# Altium schematic symbol library ESP_Grow_Main_V2.SCHLIB: 53 symbols
Pins are listed as number, name and electrical type; pins without a type are passive.

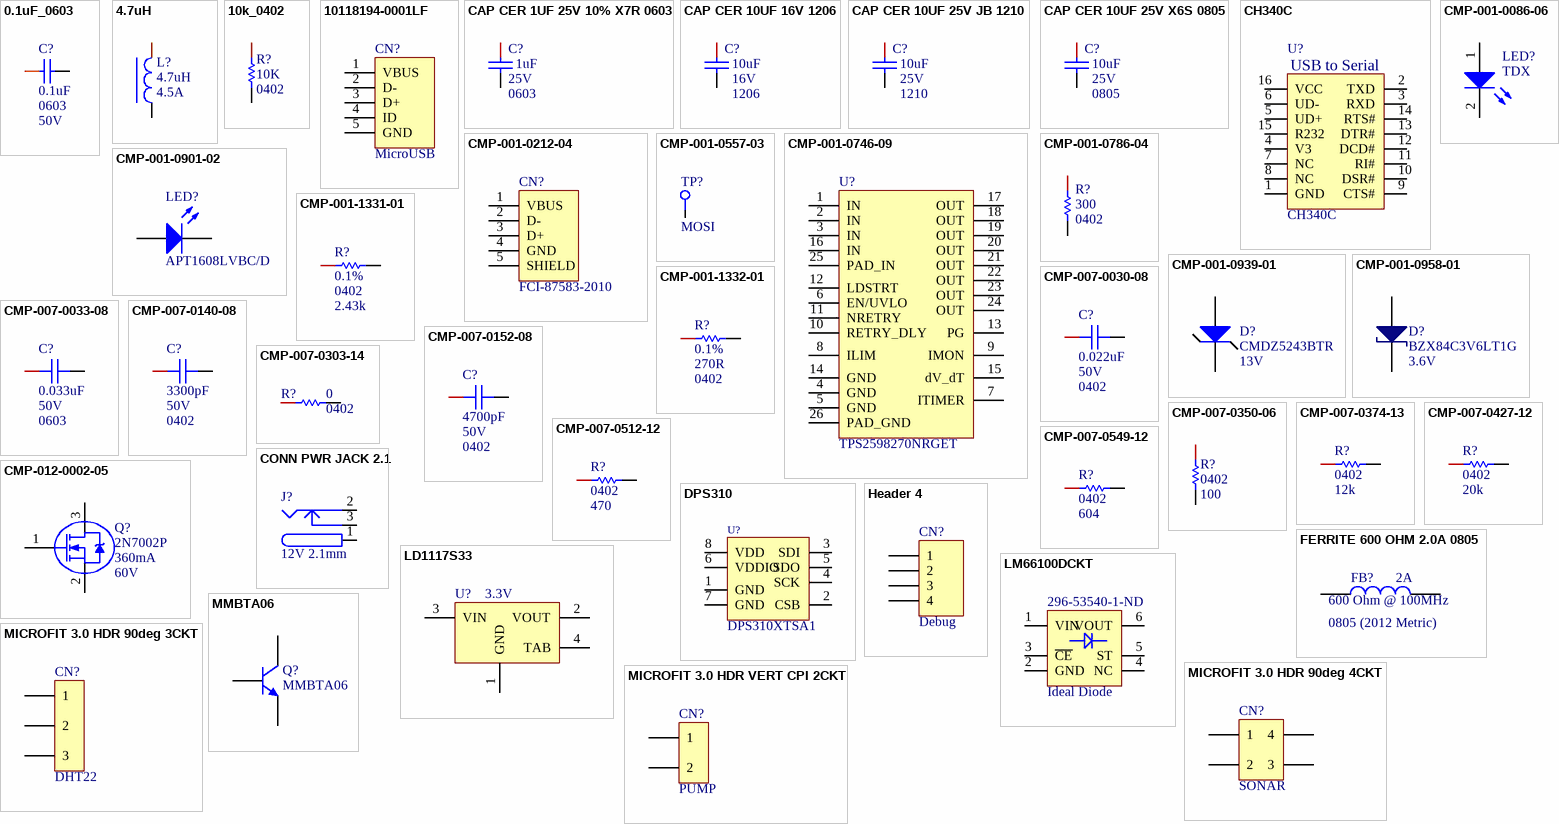
[diagram p0: symbols 0.1uF_0603 to MMBTA06]

## 0.1uF_0603
designator C?, comment Package / Case: 0603  Voltage - Rated: 50V  (hidden comment: 0.1uF)
100NF 50V 0603; Manufacturer: YAGEO; Manufacturer Part Number: CC0603KRX7R9BB104; Tolerance: ±10%; Temperature Coefficient: X7R; Supplier 1: Digi-Key; RoHS: RoHS Compliant; Category: Capacitors; Stock 1: 2360000; Pricing 1: 4000=0.00414, 8000=0.00378, 12000=0.0036, 28000=0.00342, 100000=0.00248 (USD); Packaging: Tape & Reel (TR); Mounting Type: Surface Mount, MLCC; Operating Temperature: -55°C ~ 125°C; Applications: General Purpose; Ratings: -; Size / Dimension: 0.063" L x 0.031" W (1.60mm x 0.80mm); Height - Seated (Max): -; Thickness (Max): 0.034" (0.87mm); Lead Spacing: -; Features: -; Lead Style: -; ComponentLink1URL: http://www.kemet.com/datasheets&C0603C104K4RACTU; ComponentLink1Description: http://www.kemet.com/datasheets&C0603C104K4RACTU; Supplier Part Number 1: 399-1096-2-ND; ComponentLink2Description: New link; ComponentLink2URL: *; LCSC Part #: C14663; Capacitance: 0.1uF
footprint CAPC0603(1608)_L (Chip Capacitor, Body 1.6x0.8mm, Height 1.0mm, IPC High Density)
footprint CAPC0603(1608)_M (Chip Capacitor, Body 1.6x0.8mm, Height 1.0mm, IPC Low Density)
footprint CAPC0603(1608)_N (Chip Capacitor, Body 1.6x0.8mm, Height 1.0mm, IPC Medium Density)
pins: 1, 2

## 4.7uH
designator L?, comment Inductance: 4.7uH  Max Current: 4.5A  (hidden comment: 4.7uH ±20% 4.5A 60mΩ)
4.7uH ±20% 4.5A 60mΩ SMD,5.2x5.4x3.0mm Power Inductors RoHS /; Manufacturer: Sunlord; Manufacturer Part Number 1: MWSA0503S-4R7MT; LCSC Part Number: C408410; Saturation Current: *; ComponentLink1Description: New link; ComponentLink1URL: *; ComponentLink2Description: New link; ComponentLink2URL: *; Package: SMD,5.2x5.4x3.0mm; DC Resistance: 60mΩ
footprint MWSA0503S-4R7MT (Precision Wire Wound Inductor, 2-Leads, Body 5.40x5.20mm, IPC Medium Density)
pins: 1 (power), 2 (power)

## 10k_0402
designator R?, comment Resistance: 10K  Package: 0402  (hidden comment: 0402WGF1002TCE)
10KOHMS ±1% 1/10W 0402; Supplier Part Number 1: C25744; Manufacturer Part Number 1: 0402WGF1002TCE; Supplier 1: LCSC
footprint RESC0402(1005)_N (Chip Resistor, Body 1.0x0.5mm, IPC Medium Density)
pins: 1, 2

## 10118194-0001LF
designator CN?, comment MicroUSB
Amphenol FCI CONN USB MICRO B RECPT SMT R/A; Manufacturer Part Number: 10118194-0001LF; Connector Type: USB - micro B; Number of Contacts: 5; Gender: Receptacle; Specifications: USB 2.0; Number of Ports: 1; Current Rating: 1.8A per Contact; Voltage - Rated: 100VAC; Mating Cycles: 10000; Shielding: Shielded; Material Flammability Rating: UL94 V-0; ClassName: *; Supplier 1: Digi-Key; Manufacturer: Amphenol FCI; RoHS: RoHS Compliant; Category: Connectors, Interconnects; Stock 1: 220681; Pricing 1: 1=0.46, 10=0.437, 25=0.3744, 50=0.318, 100=0.3056, 250=0.27444, 500=0.26196 (USD); Packaging: Cut Tape (CT); Part Status: Active; Mounting Type: Surface Mount, Right Angle; Through Hole; Mounting Feature: Horizontal; Termination: Solder; Features: Solder Retention; Ingress Protection: -; Operating Temperature: -30°C ~ 80°C; Contact Finish: Gold; Shell/Shielding Material: Steel, Stainless; Insulation Color: Black; ComponentLink1URL: http://portal.fciconnect.com/Comergent//fci/drawing/10118194.pdf; ComponentLink1Description: http://portal.fciconnect.com/Comergent//fci/drawing/10118194.pdf; Supplier Part Number 1: 609-4618-1-ND
footprint 10118194-0001LF (Amphenol FCI CONN USB MICRO B RECPT SMT R/A)
pins: 1 VBUS (power), 2 D-, 3 D+, 4 ID, 5 GND (power)

## CAP CER 1UF 25V 10% X7R 0603
designator C?, comment 1uF  Voltage - Rated: 25V  Package / Case: 0603
1uF 0603 25V; Manufacturer: TDK Corporation; Manufacturer Part Number: CGA3E1X7R1E105K080AC; Tolerance: ±10%; Temperature Coefficient: X7R; Supplier 1: Digi-Key; RoHS: RoHS Compliant; Category: Capacitors; Stock 1: 360610; Pricing 1: 1=0.2, 10=0.135, 100=0.0686, 500=0.04696, 1000=0.04154 (USD); Packaging: Cut Tape (CT); Part Status: Active; Operating Temperature: -55°C ~ 125°C; Features: -; Ratings: AEC-Q200; Applications: Automotive; Failure Rate: -; Mounting Type: Surface Mount, MLCC; Size / Dimension: 0.063" L x 0.032" W (1.60mm x 0.80mm); Height - Seated (Max): -; Thickness (Max): 0.035" (0.90mm); Lead Spacing: -; Lead Style: -; ComponentLink1URL: https://product.tdk.com/info/en/catalog/datasheets/mlcc_automotive_general_en.pdf; ComponentLink1Description: https://product.tdk.com/info/en/catalog/datasheets/mlcc_automotive_general_en.pdf; Supplier Part Number 1: 445-6931-1-ND
footprint CAPC0603(1608)_L (Chip Capacitor, Body 1.6x0.8mm, Height 1.0mm, IPC High Density)
footprint CAPC0603(1608)_M (Chip Capacitor, Body 1.6x0.8mm, Height 1.0mm, IPC Low Density)
footprint CAPC0603(1608)_N (Chip Capacitor, Body 1.6x0.8mm, Height 1.0mm, IPC Medium Density)
pins: 1, 2

## CAP CER 10UF 16V 1206
designator C?, comment 10uF  Voltage - Rated: 16V  Package: 1206
Temperature Coefficient: X7R; LCSC: C126600; Capacitance: 10uF; Supplier 1: Digi-Key; Supplier Part Number 1: 490-4793-1-ND
footprint CAPC1206(3216)_M (Chip Capacitor, Body 3.2x1.6mm, Height 1.9mm, IPC Low Density)
pins: 1, 2

## CAP CER 10UF 25V JB 1210
designator C?, comment 10uF  Package / Case: 1210  Voltage Rated: 25V
10uF 1210 25V; Manufacturer: TDK Corporation; Manufacturer Part Number: C3225JB1E106K250AA; Tolerance: ±10%; Temperature Coefficient: JB; Notification: Current market demand for these product types have resulted in fluctuating and extending lead times. Lead times may differ.; Supplier 1: Digi-Key; RoHS: RoHS Compliant; Category: Capacitors; Stock 1: 19014; Pricing 1: 1=0.74, 10=0.525, 100=0.3454, 500=0.25588 (USD); Packaging: Cut Tape (CT); Part Status: Active; Operating Temperature: -25°C ~ 85°C; Ratings: -; Applications: General Purpose; Failure Rate: -; Mounting Type: Surface Mount, MLCC; Size / Dimension: 0.126" L x 0.098" W (3.20mm x 2.50mm); Height - Seated (Max): -; Thickness (Max): 0.110" (2.80mm); Lead Spacing: -; Lead Style: -; ComponentLink1URL: https://product.tdk.com/info/en/catalog/datasheets/mlcc_commercial_general_en.pdf; ComponentLink1Description: https://product.tdk.com/info/en/catalog/datasheets/mlcc_commercial_general_en.pdf; Supplier Part Number 1: 445-11850-1-ND; Voltage - Rated: 25V; Features: Low ESL
footprint CAPC1210(3225)_L (Chip Capacitor, Body 3.2x2.5mm, Height 6.3mm, IPC High Density)
footprint CAPC1210(3225)_M (Chip Capacitor, Body 3.2x2.5mm, Height 6.3mm, IPC Low Density)
footprint CAPC1210(3225)_N (Chip Capacitor, Body 3.2x2.5mm, Height 6.3mm, IPC Medium Density)
pins: 1, 2

## CAP CER 10UF 25V X6S 0805
designator C?, comment 10uF  Voltage - Rated: 25V  Package / Case: 0805
10UF 25V X6R 0805; Manufacturer: Murata Electronics North America; Manufacturer Part Number: GRM21BC81E106ME51L; Tolerance: ±20%; Temperature Coefficient: X6S; Notification: Current market demand for these product types have resulted in fluctuating and extending lead times. Lead times may differ.; Supplier 1: Digi-Key; RoHS: RoHS Compliant; Category: Capacitors; Stock 1: 23735; Pricing 1: 1=0.29, 10=0.199, 100=0.1009, 500=0.06906, 1000=0.0611 (USD); Packaging: Cut Tape (CT); Part Status: Active; Operating Temperature: -55°C ~ 105°C; Features: -; Ratings: -; Applications: General Purpose; Mounting Type: Surface Mount, MLCC; Size / Dimension: 0.079" L x 0.049" W (2.00mm x 1.25mm); Height - Seated (Max): -; Thickness (Max): 0.055" (1.40mm); Lead Spacing: -; Lead Style: -; ComponentLink1URL: http://search.murata.co.jp/Ceramy/image/img/A01X/G101/ENG/GRM21BC81E106ME51-01.pdf; ComponentLink1Description: http://search.murata.co.jp/Ceramy/image/img/A01X/G101/ENG/GRM21BC81E106ME51-01.pdf; Supplier Part Number 1: 490-10503-1-ND
footprint CAPC0805(2012)_L (Chip Capacitor, Body 2.0x1.2mm, Height 1.55mm, IPC High Density)
footprint CAPC0805(2012)_M (Chip Capacitor, Body 2.0x1.2mm, Height 1.55mm, IPC Low Density)
footprint CAPC0805(2012)_N (Chip Capacitor, Body 2.0x1.2mm, Height 1.55mm, IPC Medium Density)
pins: 1, 2

## CH340C
designator U?
USB to Serial UART; ComponentLink2URL: https://lcsc.com/product-detail/USB_CH340C_C84681.html; ComponentLink1URL: https://www.sparkfun.com/products/15096; ComponentLink2Description: LCSC Part Link; ComponentLink1Description: Sparkfun Demo Board
footprint SOP-16 (TSOP, 16-Leads, Body 10.15x4.50mm, Pitch 1.27mm, IPC Medium Density)
pins: 1 GND (power), 2 TXD (power), 3 RXD (power), 4 V3 (power), 5 UD+ (power), 6 UD- (power), 7 NC (power), 8 NC (power), 9 CTS# (power), 10 DSR# (power), 11 RI# (power), 12 DCD# (power), 13 DTR# (power), 14 RTS# (power), 15 R232 (power), 16 VCC (power)
text: USB to Serial

## CMP-001-0086-06
designator LED?, comment TDX
LED GREEN CLEAR THIN 0603 SMD; Manufacturer Part Number: LTST-C191KGKT; Manufacturer: Lite-On Inc; Millicandela Rating: 35mcd; Wavelength - Peak: 574nm; Current - Test: 20mA; Wavelength - Dominant: 571nm; Viewing Angle: 130°; Lens Style/Size: Rectangle with Flat Top, 1.1mm x 0.8mm; Voltage - Forward (Vf) (Typ): 2V; Color: Green; Size / Dimension: 1.60mm L x 0.80mm W; Mounting Type: Surface Mount; Designator: LTST-C191KGKT; Height: 0.55mm; RoHS: RoHS Compliant; Package / Case: 0603 (1608 Metric); Packaging: Cut Tape (CT); Lens Type: Clear; Pin Count: 2; Stock 1: 84829; Pricing 1: 1=0.3, 10=0.238, 100=0.1296, 250=0.0864, 500=0.07344, 1000=0.05616, 2500=0.05076 (USD); ClassName: *
footprint SM-LED-0603 (0603 LED)
pins: 1 A, 2 K

## CMP-001-0212-04
designator CN?, comment FCI-87583-2010
USB-A Receptacle; Manufacturer Part Number: 87583-2010BLF; Manufacturer: FCI; Vendor: Digikey; PN: 609-4413-ND; Number of Contacts: 4; Specifications: USB 2.0; ComponentLink1Description: http://portal.fciconnect.com/Comergent//fci/drawing/87583.pdf; Gender: Receptacle; Connector Type: USB - A; Stock 1: 25474; Packaging: Tube; Mounting Type: Surface Mount, Right Angle, Horizontal; Ingress Protection: -; Component Name: FCI-87583-2010; MPN: 87583-2010BLF; ComponentLink1URL: http://portal.fciconnect.com/Comergent//fci/drawing/87583.pdf; Series: 87583; Pin Count: 5; RoHS: RoHS Compliant; Features: Board Lock; Pricing 1: 1=0.89, 10=0.78, 25=0.7344, 50=0.7038, 100=0.6732, 250=0.612, 500=0.5508, 1000=0.4896, 2500=0.4437 (USD); Designator: FCI-87583-2010
footprint 87583-2010 (USB-A Receptacle)
pins: 1 VBUS (power), 2 D-, 3 D+, 4 GND (power), 5 SHIELD (power)

## CMP-001-0557-03
designator TP?, comment MOSI  (no BOM)
Test Point- Current one; Pin Count: 1; Component Name: TestPoint; Designator: TestPoint
footprint Pogo-Testpoint (Test Point - Top Pad Only)
pins: 1

## CMP-001-0746-09
designator U?, comment TPS2598270NRGET
15A, 3mohm eFuse with Accurate Current Monitor and Configurable Retry Timers - No UV Lockout; Current Monitor Output: Accuracy: ±1% (Typical, for IOUT> 2 A); Output Slew Rate (dVdt): Adjustable; Fault Response: Auto-Retry; Over Temperature Protection: Yes; Voltage Input: 2.7 V to 24 V; Over Voltage Protection: N/A on this model; Extra Features: Programmable Load Handshake Timer; Current Limit Threshold: 3 A to 15 A; Rds on: 3-mΩ; Type: Circuit Breaker; Datasheet: https://www.ti.com/lit/gpn/TPS25982; Power Good Output: Yes; Supplier Link: https://www.ti.com/store/ti/en/p/product/?p=PTPS259827ONRGET; ComponentLink1Description: New link; ComponentLink1URL: *
footprint VQFN_24 (QFN, 24-Leads, Body 4.00x4.00mm, Pitch 0.50mm, Thermal Pad 2.70x1.45mm, IPC Medium Density)
pins: 1 IN (power), 2 IN (power), 3 IN (power), 4 GND (power), 5 GND (power), 6 EN/UVLO (power), 7 ITIMER (power), 8 ILIM (power), 9 IMON (power), 10 RETRY_DLY (power), 11 NRETRY (power), 12 LDSTRT (power), 13 PG (power), 14 GND (power), 15 dV_dT (power), 16 IN (power), 17 OUT (power), 18 OUT (power), 19 OUT (power), 20 OUT (power), 21 OUT (power), 22 OUT (power), 23 OUT (power), 24 OUT (power), 25 PAD_IN (power), 26 PAD_GND (power)

## CMP-001-0786-04
designator R?, comment Package (Imperial): 0402  Resistance: 300  (hidden comment: RES SMD 300 OHM 1% 1/10W 0402)
300 Ohms ±1% 0.1W, 1/10W Chip Resistor 0402 (1005 Metric) Automotive AEC-Q200 Thick Film; Temperature Coefficient: 100ppm/°C; Voltage Rating (DC): 50V; Max Power Dissipation: 100mW; Package (Metric): 1005; REACH SVHC: No SVHC; Mount: Surface Mount; Min Operating Temperature: -55°C; Contact Plating: Tin; Tolerance: 1%; Max Operating Temperature: 155°C; Lead Free: Lead Free; Width: 200µm; Length: 1mm; Height: 350µm; Number of Terminations: 2; Voltage Rating: 50V; Packaging: Tape and Reel; Military Standard: Not; Power: 100mW; Package Quantity: 10000; Termination: SMD/SMT; Power Rating: 100mW; Composition: Thick Film; Depth: 0.5mm
footprint RESC0402(1005)_L (Chip Resistor, Body 1.0x0.5mm, IPC High Density)
pins: 1, 2

## CMP-001-0901-02
designator LED?, comment APT1608LVBC/D
LED BLUE CLEAR 2SMD 2.65V; Luminous Intensity: 24mcd; Test Current: 2mA; Dominant Wavelength: 470nm; Viewing Angle: 120°; Lens Color: Colorless; Case Code (Metric): 1608; Length: 1.6mm; Forward Voltage: 2.65V; Width: 0.8mm; Height: 0.75mm; Packaging: Tape and Reel; Case/Package: 0603; Mount: Surface Mount; Color: Blue; Lens Transparency: Clear; Case Code (Imperial): 0603
footprint SM-LED-0603 (0603 LED)
pins: 1 Anode, 2 Cathode

## CMP-001-0939-01
designator D?, comment CMDZ5243BTR  Zener Voltage: 13V
DIODE ZENER 13V 250MW SOD323; Tolerance: 5%; Impedance: 13R; Max Operating Temperature: 150°C; Max Power Dissipation: 250mW; Packaging: Tape and Reel; Min Operating Temperature: -65°C; Mount: Surface Mount
footprint SOD-323 (SODFL, 2-Leads, Body 1.25x2.50mm, IPC Medium Density)
pins: 1 K, 2 A

## CMP-001-0958-01
designator D?, comment BZX84C3V6LT1G  Voltage Rating (DC): 3.6V
DIODE ZENER 3.6V 225MW SOT23-3; ESD Protection: Yes; Tolerance: 6%; Forward Voltage: 900mV; Element Configuration: Single; Peak Reverse Current: 5uA; Zener Current: 10mA; Power Dissipation: 300mW; Test Current: 5mA; Impedance: 90R; Material: Plastic; Max Power Dissipation: 225mW; Halogen Free: Halogen Free; Lead Free: Lead Free; Power Rating: 225mW; REACH SVHC: No SVHC; Radiation Hardening: No; Number of Pins: 3; Working Voltage: 3.6V; Contact Plating: Tin,Matte; Case/Package: SOT-23-3; Length: 0.119inch; Voltage Tolerance: 6%; Max Operating Temperature: 150°C; Packaging: Tape and Reel; Package Quantity: 3000; Width: 0.055inch; Min Operating Temperature: -65°C; Zener Voltage: 3.6V; Height: 0.044inch; Max Reverse Leakage Current: 5uA
footprint SOT23 (SOT-23; 3 Leads; Body 3.0 x 2.5 mm, inc. leads (LxW max))
pins: 1 A, 3 K

## CMP-001-1331-01
designator R?, comment Tolerance: 0.1%  Case/Package: 0402  Resistance: 2.43k  (hidden comment: 2.34k)
RES SMD 2.43KOHM 0.1% 1/16W 0402; Voltage Rating (DC): 50V; Power Rating: 63mW; Temperature Coefficient: 25ppm/°C; Voltage Rating: 25V; Case Code (Metric): 1005; Max Operating Temperature: 155°C; Number of Terminations: 2; Package Quantity: 1; Length: 0.039inch; Width: 0.02inch; Features: Automotive AEC-Q200; Lead Free: Lead Free; Weight: 2.8E-05oz; Termination: SMD/SMT; Min Operating Temperature: -55°C; Case Code (Imperial): 0402; Max Power Dissipation: 63mW; Resistor Type: Thin Film,Metal Film; Height: 0.016inch; Mount: Surface Mount; REACH SVHC: Unknown; Packaging: Tape and Reel
footprint RESC0402(1005)_L (Chip Resistor, Body 1.0x0.5mm, IPC High Density)
footprint RESC0402(1005)_M (Chip Resistor, Body 1.0x0.5mm, IPC Low Density)
footprint RESC0402(1005)_N (Chip Resistor, Body 1.0x0.5mm, IPC Medium Density)
pins: 1, 2

## CMP-001-1332-01
designator R?, comment Tolerance: 0.1%  Resistance: 270R  Case Code (Imperial): 0402  (hidden comment: 270)
RES SMD 270 OHM 0.1% 1/16W 0402; Power Rating: 30mW; Temperature Coefficient: 25ppm/°C; Voltage Rating (DC): 25V; Package Quantity: 5000; Min Operating Temperature: -55°C; Termination: SMD/SMT; Resistor Type: Thin Film; Lead Free: Lead Free; Max Operating Temperature: 155°C; Height: 0.35mm; REACH SVHC: Unknown; Width: 0.5mm; Length: 1mm; Voltage Rating: 25V; Number of Pins: 2; Case/Package: 0402; Packaging: Tape and Reel; Case Code (Metric): 1005
footprint RESC0402(1005)_N (Chip Resistor, Body 1.0x0.5mm, IPC Medium Density)
footprint RESC0402(1005)_M (Chip Resistor, Body 1.0x0.5mm, IPC Low Density)
footprint RESC0402(1005)_L (Chip Resistor, Body 1.0x0.5mm, IPC High Density)
pins: 1, 2

## CMP-007-0030-08
designator C?, comment 0.022uF  Voltage (Rated): 50V  Package (Imperial): 0402
CAP CER 0.022UF 50V X7R 0402; Tolerance: 10%; Package (Metric): 1005; Capacitance: 22nF; Dielectric Material: Ceramic; Temperature Coefficient: X7R; Mounting Type: SMD
footprint CAPC0402(1005)_N (Chip Capacitor, Body 1.0x0.5mm, Height 0.7mm, IPC Medium Density)
footprint CAPC0402(1005)_M (Chip Capacitor, Body 1.0x0.5mm, Height 0.7mm, IPC Low Density)
footprint CAPC0402(1005)_L (Chip Capacitor, Body 1.0x0.5mm, Height 0.7mm, IPC High Density)
pins: 1, 2
1 alternate drawing of the same symbol

## CMP-007-0033-08
designator C?, comment 0.033uF  Voltage (Rated): 50V  Package (Imperial): 0603
CAP CER 0.033UF 50V X7R 0603; Tolerance: 5%; Package (Metric): 1608; Dielectric Material: Ceramic; Capacitance: 33nF; Temperature Coefficient: X7R; Mounting Type: SMD
footprint CAPC0603(1608)_L (Chip Capacitor, Body 1.6x0.8mm, Height 1.0mm, IPC High Density)
footprint CAPC0603(1608)_M (Chip Capacitor, Body 1.6x0.8mm, Height 1.0mm, IPC Low Density)
footprint CAPC0603(1608)_N (Chip Capacitor, Body 1.6x0.8mm, Height 1.0mm, IPC Medium Density)
pins: 1, 2
1 alternate drawing of the same symbol

## CMP-007-0140-08
designator C?, comment 3300pF  Voltage (Rated): 50V  Package (Imperial): 0402
CAP CER 3300PF 50V 10% X7R 0402; Dielectric Material: Ceramic; Capacitance: 3.3nF; Package (Metric): 1005; Tolerance: 10%; Mounting Type: SMD; Temperature Coefficient: X7R
footprint CAPC0402(1005)_L (Chip Capacitor, Body 1.0x0.5mm, Height 0.7mm, IPC High Density)
footprint CAPC0402(1005)_M (Chip Capacitor, Body 1.0x0.5mm, Height 0.7mm, IPC Low Density)
footprint CAPC0402(1005)_N (Chip Capacitor, Body 1.0x0.5mm, Height 0.7mm, IPC Medium Density)
pins: 1, 2
1 alternate drawing of the same symbol

## CMP-007-0152-08
designator C?, comment 4700pF  Voltage (Rated): 50V  Package (Imperial): 0402
CAP CER 4700PF 50V X7R 0402; Dielectric Material: Ceramic; Package (Metric): 1005; Tolerance: 10%; Capacitance: 4.7nF; Mounting Type: SMD; Temperature Coefficient: X7R
footprint CAPC0402(1005)_L (Chip Capacitor, Body 1.0x0.5mm, Height 0.7mm, IPC High Density)
footprint CAPC0402(1005)_M (Chip Capacitor, Body 1.0x0.5mm, Height 0.7mm, IPC Low Density)
footprint CAPC0402(1005)_N (Chip Capacitor, Body 1.0x0.5mm, Height 0.7mm, IPC Medium Density)
pins: 1, 2
1 alternate drawing of the same symbol

## CMP-007-0303-14
designator R?, comment Package (Imperial): 0402  Resistance: 0  (hidden comment: 0.0)
RES 0.0 OHM JUMPER 1/10W 0402; Power: 63mW; Package (Metric): 1005; Tolerance: 0%; Operating Temperature: -55°C ~ 155°C; Length: 1mm; Temperature Coefficient: -; Height: 400µm; Termination: SMD/SMT
simulation model RESISTOR (Resistor)
footprint RESC0402(1005)_M (Chip Resistor, Body 1.0x0.5mm, IPC Low Density)
footprint RESC0402(1005)_L (Chip Resistor, Body 1.0x0.5mm, IPC High Density)
footprint RESC0402(1005)_N (Chip Resistor, Body 1.0x0.5mm, IPC Medium Density)
pins: 1, 2

## CMP-007-0350-06
designator R?, comment Package (Imperial): 0402  (hidden comment: 100)
RES 100 OHM 1% 1/16W 0402; Power: 63mW; Temperature Coefficient: ±100ppm/°C; Package (Metric): 1005; Operating Temperature: -55°C ~ 155°C; Termination: SMD/SMT; Resistance: 100; Length: 1mm; Height: 400µm; Tolerance: 1%
simulation model RESISTOR (Resistor)
footprint RESC0402(1005)_M (Chip Resistor, Body 1.0x0.5mm, IPC Low Density)
footprint RESC0402(1005)_L (Chip Resistor, Body 1.0x0.5mm, IPC High Density)
footprint RESC0402(1005)_N (Chip Resistor, Body 1.0x0.5mm, IPC Medium Density)
pins: 1, 2
1 alternate drawing of the same symbol

## CMP-007-0374-13
designator R?, comment Package (Imperial): 0402  Resistance: 12k  (hidden comment: RES 12K OHM 1% 1/16W 0402)
12 kOhms ±1% 0.063W, 1/16W Chip Resistor 0402 (1005 Metric) Automotive AEC-Q200 Thick Film; Power: 63mW; Temperature Coefficient: ±100ppm/°C; Package (Metric): 1005; Termination: SMD/SMT; Tolerance: 1%; Height: 400µm; Operating Temperature: -55°C ~ 155°C; Length: 1mm
simulation model RESISTOR (Resistor)
footprint RESC0402(1005)_M (Chip Resistor, Body 1.0x0.5mm, IPC Low Density)
footprint RESC0402(1005)_L (Chip Resistor, Body 1.0x0.5mm, IPC High Density)
footprint RESC0402(1005)_N (Chip Resistor, Body 1.0x0.5mm, IPC Medium Density)
pins: 1, 2

## CMP-007-0427-12
designator R?, comment Package (Imperial): 0402  (hidden comment: 20K)
RES 20K OHM 1% 1/10W 0402; Power: 63mW; Temperature Coefficient: ±100ppm/°C; Package (Metric): 1005; Tolerance: 1%; Length: 1mm; Resistance: 20k; Operating Temperature: -55°C ~ 155°C; Termination: SMD/SMT; Height: 400µm
simulation model RESISTOR (Resistor)
footprint RESC0402(1005)_L (Chip Resistor, Body 1.0x0.5mm, IPC High Density)
footprint RESC0402(1005)_M (Chip Resistor, Body 1.0x0.5mm, IPC Low Density)
footprint RESC0402(1005)_N (Chip Resistor, Body 1.0x0.5mm, IPC Medium Density)
pins: 1, 2

## CMP-007-0512-12
designator R?, comment Package (Imperial): 0402  (hidden comment: 470)
RES 470 OHM 1% 1/10W 0402; Temperature Coefficient: ±100ppm/°C; Power: 63mW; Package (Metric): 1005; Operating Temperature: -55°C ~ 155°C; Height: 400µm; Length: 1mm; Termination: SMD/SMT; Tolerance: 1%; Resistance: 470
simulation model RESISTOR (Resistor)
footprint RESC0402(1005)_M (Chip Resistor, Body 1.0x0.5mm, IPC Low Density)
footprint RESC0402(1005)_L (Chip Resistor, Body 1.0x0.5mm, IPC High Density)
footprint RESC0402(1005)_N (Chip Resistor, Body 1.0x0.5mm, IPC Medium Density)
pins: 1, 2

## CMP-007-0549-12
designator R?, comment Package (Imperial): 0402  (hidden comment: 604)
RES 604 OHM 1% 1/10W 0402; Package (Metric): 1005; Temperature Coefficient: ±25ppm/°C; Power: 63mW; Resistance: 604; Termination: SMD/SMT; Tolerance: 1%; Operating Temperature: -55°C ~ 155°C; Length: 1mm; Height: 400µm
simulation model RESISTOR (Resistor)
footprint RESC0402(1005)_M (Chip Resistor, Body 1.0x0.5mm, IPC Low Density)
footprint RESC0402(1005)_L (Chip Resistor, Body 1.0x0.5mm, IPC High Density)
footprint RESC0402(1005)_N (Chip Resistor, Body 1.0x0.5mm, IPC Medium Density)
pins: 1, 2

## CMP-012-0002-05
designator Q?, comment 2N7002P  Continuous Drain Current (ID): 360mA  Drain to Source Voltage (Vdss): 60V
MOSFET N-CH 60V 0.36A SOT-23; Drain to Source Resistance: 1.6R; Gate to Source Voltage (Vgs): 20V; Turn-Off Delay Time: 10ns; Input Capacitance: 50pF; Max Power Dissipation: 350mW; Rise Time: 4ns; Fall Time: 5ns; Number of Elements: 1; Power Dissipation: 420mW; Turn-On Delay Time: 3ns; Contact Plating: Tin; Case/Package: SOT; Number of Pins: 3; Rds On Max: 1.6R; Package Quantity: 10000; Lead Free: Lead Free; Packaging: Tape and Reel; Max Dual Supply Voltage: 60V; Min Operating Temperature: -55°C; Radiation Hardening: No; Drain to Source Breakdown Voltage: 60V; Max Operating Temperature: 150°C
footprint SOT23 (SOT-23; 3 Leads; Body 3.0 x 2.5 mm, inc. leads (LxW max))
pins: 1 G, 2 S, 3 D

## CONN PWR JACK 2.1
designator J?, comment 12V 2.1mm
2.1 mm barrel jack; Manufacturer: CUI Inc; Manufacturer Part Number: PJ-002A; Gender: Male; Plug/Mating Plug Diameter: 2.1mm ID, 5.5mm OD; Number of Positions/Contacts: 2 Conductors, 3 Contacts; Internal Switch(s): Single Switch, Normally Closed; Shielding: Unshielded; Voltage - Rated: 16VDC; Current Rating: 2.5A; Published: 17-Dec-2003; DatasheetDocument: 09-May-2002; Publisher: Altium Limited; ComponentLink1Description: Manufacturer Link; ComponentLink1URL: http://domino.kycon.com/internet/Products.html; RoHS: RoHS Compliant; Category: Connectors, Interconnects; Connector Type: Jack; Mounting Type: Through Hole, Right Angle; Termination: Solder Eyelet(s); Features: -; Color: Black; Contact Material: Copper Alloy; Contact Material - Plating: Tin; Housing Color: Black; Housing Material: Thermoplastic; Operating Temperature: -25°C ~ 85°C; ComponentLink2URL: http://www.cui.com/product/resource/digikeypdf/pj-002a.pdf; ComponentLink2Description: http://www.cui.com/product/resource/digikeypdf/pj-002a.pdf; Supplier 1: Digi-Key; Stock 1: 47553; Pricing 1: 1=1.01, 10=0.704, 100=0.4724, 500=0.3819, 1000=0.3417, 2500=0.27135 (USD); ComponentLink3URL: http://www.cui.com/product/resource/digikeypdf/pj-002ah.pdf; ComponentLink3Description: http://www.cui.com/product/resource/digikeypdf/pj-002ah.pdf; Supplier Part Number 1: CP-002AH-ND
footprint CONN_PWR_JACK_2.1x5.5mm (Power Connector, 2.1mm ID, 5.5mm OD)
pins: 1 (power), 2 (power), 3 (power)

## DPS310
designator U?, comment DPS310XTSA1
SENSOR PRESSURE CAPACITIVE; Pressure Type: Vented Gauge; Operating Pressure: 4.35PSI ~ 17.4PSI (30kPa ~ 120kPa); Output Type: I²C, SPI; Voltage - Supply: 1.7V ~ 3.6V; Accuracy: ±0.5°C; Supplier 1: Digi-Key; Supplier Part Number 1: DPS310XTSA1CT-ND; Package / Case: 8-VFLGA
footprint Infineon_PG-VLGA-8
pins: 1 GND, 2 CSB, 3 SDI, 4 SCK, 5 SDO, 6 VDDIO, 7 GND, 8 VDD

## FERRITE 600 OHM 2.0A 0805
designator FB?, comment 600 Ohm @ 100MHz  Current Rating: 2A  Package / Case: 0805 (2012 Metric)
600 OHM 0805 2.0A; Manufacturer: Wurth Electronics Inc; Manufacturer Part Number: 742792040; DC Resistance (DCR): 150 mOhm Max; Filter Type: Differential Mode - Single; Supplier 1: Digi-Key; RoHS: RoHS Compliant; Category: Filters; Stock 1: 34670; Pricing 1: 1=0.24, 50=0.2344, 100=0.2156, 500=0.20624, 1000=0.19687, 2000=0.1875 (USD); Packaging: Cut Tape (CT); Mounting Type: Surface Mount; Height (Max): 0.043" (1.10mm); Size / Dimension: 0.079" L x 0.047" W (2.00mm x 1.20mm); ComponentLink1URL: http://katalog.we-online.de/pbs/datasheet/742792040.pdf; ComponentLink1Description: http://katalog.we-online.de/pbs/datasheet/742792040.pdf; Supplier Part Number 1: 732-1620-1-ND; ClassName: *; Creator: osman; Impedance @ Frequency: 600 Ohm @ 100MHz
footprint RESC0805(2012)_L (Chip Resistor, Body 2.0x1.3mm, IPC High Density)
footprint RESC0805(2012)_M (Chip Resistor, Body 2.0x1.3mm, IPC Low Density)
footprint RESC0805(2012)_N (Chip Resistor, Body 2.0x1.3mm, IPC Medium Density)
pins: 1, 2

## Header 4
designator CN?, comment Debug
Header, 4-Pin; Manufacturer: Sullins Connector Solutions; Manufacturer Part Number: PRPC004SAAN-RC; Connector Type: Header, Unshrouded, Breakaway; Number of Positions: 4; Number of Positions Loaded: All; Pitch: 0.100" (2.54mm); Supplier 1: Digi-Key; RoHS: RoHS Compliant; Category: Connectors, Interconnects; Stock 1: 0; Pricing 1: 1=0.2, 10=0.175, 100=0.1443, 500=0.1141, 1000=0.09794, 5000=0.08935, 10000=0.08591 (USD); Packaging: Bulk; Contact Type: Male Pin; Number of Rows: 1; Row Spacing: -; Contact Mating Length: 0.230" (5.84mm); Mounting Type: Through Hole; Termination: Solder; Fastening Type: -; Features: -; Contact Finish: Gold; Contact Finish Thickness: Flash; Color: Black; ComponentLink1URL: http://media.digikey.com/PDF/Data%20Sheets/Sullins%20PDFs/xRxCzzzSxxN-RC_ST_11635-B.pdf; ComponentLink1Description: http://media.digikey.com/PDF/Data%20Sheets/Sullins%20PDFs/xRxCzzzSxxN-RC_ST_11635-B.pdf; Supplier Part Number 1: S1011EC-04-ND
footprint HDR1X4 (Connector; Header; 4 Position)
footprint HDR1X4A (Connector; Header; 4 Position)
pins: 1, 2, 3, 4

## LD1117S33
designator U?, comment 3.3V
3.3 volt fixed regulator, 800mA; Supplier 1: Digi-Key; Supplier Part Number 1: 497-1242-1-ND
footprint DSO-G3 (SOT-223/SC-73; 4 Leads; Body 6.7 x 7.3 mm, inc. leads (LxW max))
pins: 1 GND (power), 2 VOUT (power), 3 VIN (power), 4 TAB (power)

## LM66100DCKT
designator U?, comment Ideal Diode  Supplier Part Number 1: 296-53540-1-ND
OR Controller P-Channel 1.5A CC; FET Type: P-Type; Voltage - Supply: 1.5V ~ 5.5V; Current - Output (Max): 1.5A; Supplier 1: Digi-Key
footprint SC-70-6 (SOT23, 6-Leads, Body 2.00x2.10mm, Pitch 0.65mm, IPC Medium Density)
pins: 1 VIN, 2 GND, 3 ~{CE}, 4 NC, 5 ST, 6 VOUT

## MICROFIT 3.0 HDR 90deg 3CKT
designator CN?, comment DHT22
Molex Microfit 1x3 90deg Header; Manufacturer: Molex Inc; Manufacturer Part Number: 0436500304; Connector Type: Header, Shrouded; Number of Positions: 3; Number of Positions Loaded: All; Pitch: 0.118" (3.00mm); ClassName: *; Supplier 1: Digi-Key; RoHS: RoHS Compliant; Category: Connectors, Interconnects; Stock 1: 42564; Pricing 1: 1=1.39, 10=1.224, 50=1.104, 100=1.056, 250=0.96, 500=0.864, 1000=0.768, 2500=0.696, 5000=0.672 (USD); Packaging: Tray; Contact Type: Male Pin; Number of Rows: 1; Row Spacing: -; Contact Mating Length: -; Mounting Type: Through Hole, Right Angle; Termination: Solder; Fastening Type: Locking Ramp; Features: Board Lock; Contact Finish: Gold; Contact Finish Thickness: 15µin (0.38µm); Color: Black; ComponentLink1URL: http://www.molex.com/pdm_docs/sd/436500304_sd.pdf; ComponentLink1Description: http://www.molex.com/pdm_docs/sd/436500304_sd.pdf; Supplier Part Number 1: WM1876-ND
footprint Molex 1x3 Microfit 90deg (Molex Microfit 1x3 90deg)
pins: 1, 2, 3

## MICROFIT 3.0 HDR 90deg 4CKT
designator CN?, comment SONAR
Molex Microfit 2x2 90deg Header; Manufacturer: Molex Inc; Manufacturer Part Number: 0430450400; Connector Type: Header, Shrouded; Number of Positions: 4; Number of Positions Loaded: All; Pitch: 0.118" (3.00mm); ClassName: *; Supplier 1: Digi-Key; RoHS: RoHS Compliant; Category: Connectors, Interconnects; Stock 1: 9668; Pricing 1: 1=1.35, 10=1.228, 50=1.1026, 100=1.0525, 250=0.95228, 500=0.8771, 1000=0.7518, 2500=0.70168, 5000=0.6666 (USD); Packaging: Tray; Contact Type: Male Pin; Number of Rows: 2; Row Spacing: 0.118" (3.00mm); Contact Mating Length: -; Mounting Type: Through Hole, Right Angle; Termination: Solder; Fastening Type: Locking Ramp; Features: Board Lock; Contact Finish: Tin; Contact Finish Thickness: 100µin (2.54µm); Color: Black; ComponentLink1URL: http://www.molex.com/pdm_docs/sd/430450400_sd.pdf; ComponentLink1Description: http://www.molex.com/pdm_docs/sd/430450400_sd.pdf; Supplier Part Number 1: WM1814-ND
footprint Molex 2x2 Microfit 90deg (Microfit 90 deg 2x2 Position)
pins: 1, 2, 3, 4

## MICROFIT 3.0 HDR VERT CPI 2CKT
designator CN?, comment PUMP
Molex Microfit 1x2 Vert Header; Manufacturer: Molex, LLC; Manufacturer Part Number: 0430450227; Shrouding: Shrouded - 4 Wall; Number of Positions: 2; Number of Positions Loaded: All; Row Spacing: 0.118" (3.00mm); Supplier 1: Digi-Key; RoHS: RoHS Compliant; Category: Connectors, Interconnects; Stock 1: 4002; Pricing 1: 1=0.8, 10=0.705, 50=0.636, 100=0.6083, 250=0.553, 500=0.4977, 1000=0.4424, 2500=0.40092, 5000=0.3871 (USD); Packaging: Tray; Part Status: Active; Connector Type: Header; Contact Type: Male Pin; Pitch: -; Number of Rows: 2; Mounting Type: Through Hole; Termination: Solder; Fastening Type: Locking Ramp; Contact Mating Length: -; Features: Board Guide; Contact Finish: Tin; Contact Finish Thickness: 60µin (1.52µm); Color: Black; ComponentLink1URL: http://www.molex.com/pdm_docs/sd/430450227_sd.pdf; ComponentLink1Description: http://www.molex.com/pdm_docs/sd/430450227_sd.pdf; Supplier Part Number 1: WM10657-ND
footprint Molex 1x2 Microfit 3.0 (Connector; Header; 1x2 Position)
pins: 1, 2

## MMBTA06
designator Q?
TRANS NPN 80V 0.5A SOT-23; Manufacturer: ON Semiconductor; Manufacturer Part Number: MMBTA06LT3G; Vce Saturation (Max) @ Ib, Ic: 250mV @ 10mA, 100mA; Current - Collector Cutoff (Max): 100nA; DC Current Gain (hFE) (Min) @ Ic, Vce: 100 @ 100mA, 1V; Frequency - Transition: 100MHz; Supplier 1: Digi-Key; RoHS: RoHS Compliant; Category: Discrete Semiconductor Products; Stock 1: 16604; Pricing 1: 1=0.21, 10=0.196, 100=0.1067, 500=0.06566, 1000=0.04476 (USD); Packaging: Cut Tape (CT); Part Status: Active; Transistor Type: NPN; Operating Temperature: -55°C ~ 150°C (TJ); Mounting Type: Surface Mount; Package / Case: TO-236-3, SC-59, SOT-23-3; Supplier Device Package: SOT-23-3 (TO-236); Base Part Number: MMBTA06; ComponentLink1URL: http://www.onsemi.com/pub/Collateral/MMBTA05LT1-D.PDF; ComponentLink1Description: http://www.onsemi.com/pub/Collateral/MMBTA05LT1-D.PDF; Supplier Part Number 1: MMBTA06LT3GOSCT-ND
footprint SOT23 (SOT-23; 3 Leads; Body 3.0 x 2.5 mm, inc. leads (LxW max))
pins: 1 B, 2 E, 3 C

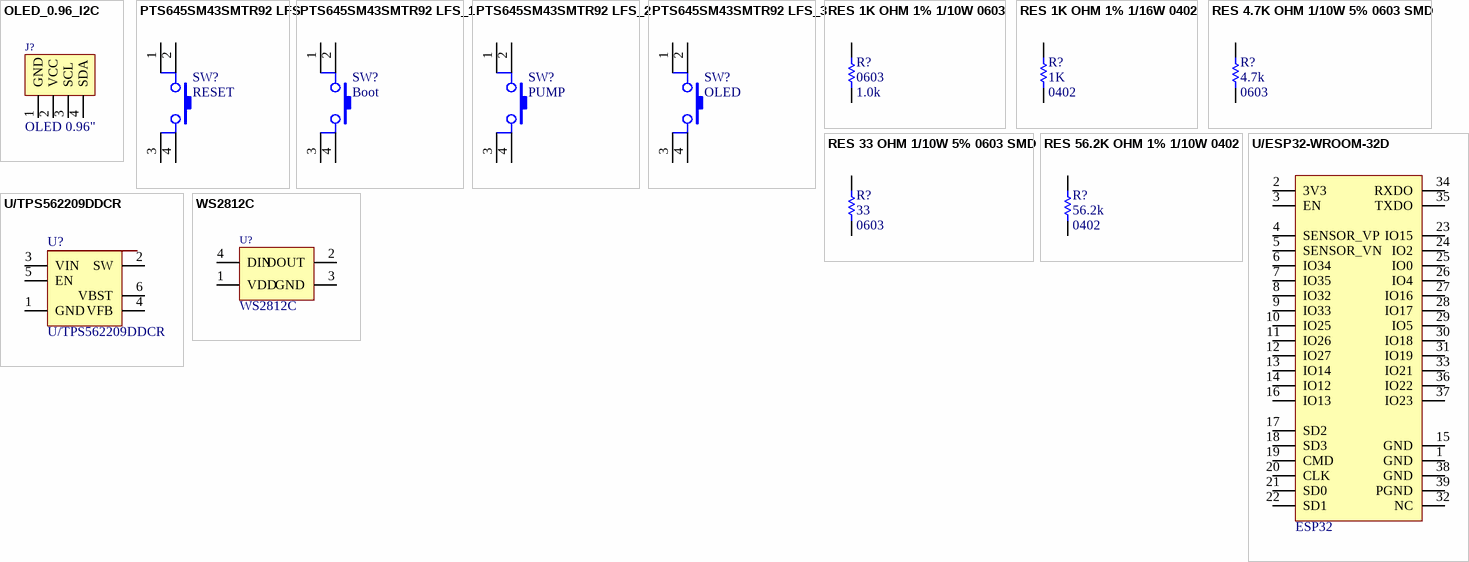
[diagram p1: symbols OLED_0.96_I2C to WS2812C]

## OLED_0.96_I2C
designator J?, comment OLED 0.96"
SSD1306 I2C OLED 0.96"
footprint OLED_0.96_I2C
footprint OLED_0.96_I2C-Header Only (Header only for oled)
pins: 1 GND, 2 VCC, 3 SCL, 4 SDA

## PTS645SM43SMTR92 LFS
designator SW?, comment RESET
SWITCH TACTILE SPST-NO 0.05A 12V; Manufacturer: C&K; Manufacturer Part Number: PTS645SM43SMTR92 LFS; Switch Function: Off-Mom; Contact Rating @ Voltage: 0.05A @ 12VDC; Actuator Type: Standard; Actuator Height off PCB, Vertical: 4.30mm; Actuator Orientation: Top Actuated; Outline: 6.00mm x 6.00mm; Illumination: Non-Illuminated; Operating Force: 160gf; Actuator Material: Polyamide (PA66), Nylon 6/6; Mechanical Life: 100,000 Cycles; ClassName: *; Supplier 1: Digi-Key; RoHS: RoHS Compliant; Category: Switches; Stock 1: 234699; Pricing 1: 1=0.15, 10=0.147, 25=0.1416, 50=0.1366, 100=0.129, 250=0.12144, 500=0.11638 (USD); Packaging: Cut Tape (CT); Part Status: Active; Circuit: SPST-NO; Mounting Type: Surface Mount; Actuator Length, Right Angle: -; Termination Style: Gull Wing; Illumination Type, Color: -; Illumination Voltage (Nominal): -; Ingress Protection: -; Features: Blue Actuator; Switch Travel: -; Operating Temperature: -20°C ~ 60°C; ComponentLink1URL: http://www.ckswitches.com/media/1471/pts645.pdf; ComponentLink1Description: http://www.ckswitches.com/media/1471/pts645.pdf; Supplier Part Number 1: CKN9112CT-ND
footprint SW TACT Red 6mm x 6mm (Switch, tactile, red button, SMD 6 mm x 6 mm)
pins: 1, 2, 3, 4

## PTS645SM43SMTR92 LFS_1
designator SW?, comment Boot
SWITCH TACTILE SPST-NO 0.05A 12V; Manufacturer: C&K; Manufacturer Part Number: PTS645SM43SMTR92 LFS; Switch Function: Off-Mom; Contact Rating @ Voltage: 0.05A @ 12VDC; Actuator Type: Standard; Actuator Height off PCB, Vertical: 4.30mm; Actuator Orientation: Top Actuated; Outline: 6.00mm x 6.00mm; Illumination: Non-Illuminated; Operating Force: 160gf; Actuator Material: Polyamide (PA66), Nylon 6/6; Mechanical Life: 100,000 Cycles; ClassName: *; Supplier 1: Digi-Key; RoHS: RoHS Compliant; Category: Switches; Stock 1: 234699; Pricing 1: 1=0.15, 10=0.147, 25=0.1416, 50=0.1366, 100=0.129, 250=0.12144, 500=0.11638 (USD); Packaging: Cut Tape (CT); Part Status: Active; Circuit: SPST-NO; Mounting Type: Surface Mount; Actuator Length, Right Angle: -; Termination Style: Gull Wing; Illumination Type, Color: -; Illumination Voltage (Nominal): -; Ingress Protection: -; Features: Blue Actuator; Switch Travel: -; Operating Temperature: -20°C ~ 60°C; ComponentLink1URL: http://www.ckswitches.com/media/1471/pts645.pdf; ComponentLink1Description: http://www.ckswitches.com/media/1471/pts645.pdf; Supplier Part Number 1: CKN9112CT-ND
footprint SW TACT Red 6mm x 6mm (Switch, tactile, red button, SMD 6 mm x 6 mm)
pins: 1, 2, 3, 4

## PTS645SM43SMTR92 LFS_2
designator SW?, comment PUMP
SWITCH TACTILE SPST-NO 0.05A 12V; Manufacturer: C&K; Manufacturer Part Number: PTS645SM43SMTR92 LFS; Switch Function: Off-Mom; Contact Rating @ Voltage: 0.05A @ 12VDC; Actuator Type: Standard; Actuator Height off PCB, Vertical: 4.30mm; Actuator Orientation: Top Actuated; Outline: 6.00mm x 6.00mm; Illumination: Non-Illuminated; Operating Force: 160gf; Actuator Material: Polyamide (PA66), Nylon 6/6; Mechanical Life: 100,000 Cycles; ClassName: *; Supplier 1: Digi-Key; RoHS: RoHS Compliant; Category: Switches; Stock 1: 234699; Pricing 1: 1=0.15, 10=0.147, 25=0.1416, 50=0.1366, 100=0.129, 250=0.12144, 500=0.11638 (USD); Packaging: Cut Tape (CT); Part Status: Active; Circuit: SPST-NO; Mounting Type: Surface Mount; Actuator Length, Right Angle: -; Termination Style: Gull Wing; Illumination Type, Color: -; Illumination Voltage (Nominal): -; Ingress Protection: -; Features: Blue Actuator; Switch Travel: -; Operating Temperature: -20°C ~ 60°C; ComponentLink1URL: http://www.ckswitches.com/media/1471/pts645.pdf; ComponentLink1Description: http://www.ckswitches.com/media/1471/pts645.pdf; Supplier Part Number 1: CKN9112CT-ND
footprint SW TACT Red 6mm x 6mm (Switch, tactile, red button, SMD 6 mm x 6 mm)
pins: 1, 2, 3, 4

## PTS645SM43SMTR92 LFS_3
designator SW?, comment OLED
SWITCH TACTILE SPST-NO 0.05A 12V; Manufacturer: C&K; Manufacturer Part Number: PTS645SM43SMTR92 LFS; Switch Function: Off-Mom; Contact Rating @ Voltage: 0.05A @ 12VDC; Actuator Type: Standard; Actuator Height off PCB, Vertical: 4.30mm; Actuator Orientation: Top Actuated; Outline: 6.00mm x 6.00mm; Illumination: Non-Illuminated; Operating Force: 160gf; Actuator Material: Polyamide (PA66), Nylon 6/6; Mechanical Life: 100,000 Cycles; ClassName: *; Supplier 1: Digi-Key; RoHS: RoHS Compliant; Category: Switches; Stock 1: 234699; Pricing 1: 1=0.15, 10=0.147, 25=0.1416, 50=0.1366, 100=0.129, 250=0.12144, 500=0.11638 (USD); Packaging: Cut Tape (CT); Part Status: Active; Circuit: SPST-NO; Mounting Type: Surface Mount; Actuator Length, Right Angle: -; Termination Style: Gull Wing; Illumination Type, Color: -; Illumination Voltage (Nominal): -; Ingress Protection: -; Features: Blue Actuator; Switch Travel: -; Operating Temperature: -20°C ~ 60°C; ComponentLink1URL: http://www.ckswitches.com/media/1471/pts645.pdf; ComponentLink1Description: http://www.ckswitches.com/media/1471/pts645.pdf; Supplier Part Number 1: CKN9112CT-ND
footprint SW TACT Red 6mm x 6mm (Switch, tactile, red button, SMD 6 mm x 6 mm)
pins: 1, 2, 3, 4

## RES 1K OHM 1% 1/10W 0603
designator R?, comment Package / Case: 0603  (hidden comment: 1.0K)
1.0K 0603; Manufacturer: Stackpole Electronics Inc.; Manufacturer Part Number: RMCF0603FT1K00; Tolerance: ±1%; Power (Watts): 0.1W, 1/10W; Temperature Coefficient: ±100ppm/°C; Supplier 1: Digi-Key; RoHS: RoHS Compliant; Category: Resistors; Stock 1: 411308; Pricing 1: 1=0.1, 10=0.02, 100=0.0081, 1000=0.00364, 2500=0.00316 (USD); Packaging: Cut Tape (CT); Part Status: Active; Composition: Thick Film; Features: Automotive AEC-Q200; Operating Temperature: -55°C ~ 155°C; Size / Dimension: 0.061" L x 0.031" W (1.55mm x 0.80mm); Height - Seated (Max): 0.022" (0.55mm); Failure Rate: -; ComponentLink1URL: https://www.seielect.com/Catalog/SEI-RMCF_RMCP.pdf; ComponentLink1Description: https://www.seielect.com/Catalog/SEI-RMCF_RMCP.pdf; Supplier Part Number 1: RMCF0603FT1K00CT-ND; Supplier Device Package: 0603; Resistance (Ohms): 1.0k
footprint RESC0603(1608)_L (Chip Resistor, Body 1.6x0.8mm, IPC High Density)
footprint RESC0603(1608)_M (Chip Resistor, Body 1.6x0.8mm, IPC Low Density)
footprint RESC0603(1608)_N (Chip Resistor, Body 1.6x0.8mm, IPC Medium Density)
pins: 1, 2

## RES 1K OHM 1% 1/16W 0402
designator R?, comment Package / Case: 0402  (hidden comment: 1K)
1K 0402; Manufacturer: Yageo; Manufacturer Part Number: RC0402FR-071KL; Tolerance: 1%; Temperature Coefficient: 100ppm/°C; Power Rating: 62.5mW; Voltage Rating: 50V; ComponentLink1URL: https://datasheet.ciiva.com/2453/pyu-r-int-thick-7-2453361.pdf; ComponentLink1Description: https://datasheet.ciiva.com/2453/pyu-r-int-thick-7-2453361.pdf; ComponentLink2URL: https://datasheet.ciiva.com/2453/pyu-r-int-thick-7-2453362.pdf; ComponentLink2Description: https://datasheet.ciiva.com/2453/pyu-r-int-thick-7-2453362.pdf; ComponentLink3URL: https://datasheet.ciiva.com/2453/pyu-r-int-thick-7-2453363.pdf; ComponentLink3Description: https://datasheet.ciiva.com/2453/pyu-r-int-thick-7-2453363.pdf; ComponentLink4URL: https://datasheet.ciiva.com/22747/1018594-22747509.pdf; ComponentLink4Description: https://datasheet.ciiva.com/22747/1018594-22747509.pdf; ComponentLink5URL: https://datasheet.ciiva.com/15189/getdatasheetpartid-323696-15189334.pdf; ComponentLink5Description: https://datasheet.ciiva.com/15189/getdatasheetpartid-323696-15189334.pdf; ComponentLink6URL: https://datasheet.ciiva.com/16740/pyu-rc0402-51-rohs-l-6-r-16740567.pdf; ComponentLink6Description: https://datasheet.ciiva.com/16740/pyu-rc0402-51-rohs-l-6-r-16740567.pdf; ComponentLink7URL: https://datasheet.ciiva.com/12667/pyu-rc0402-51-rohs-l-6-r-12667930.pdf; ComponentLink7Description: https://datasheet.ciiva.com/12667/pyu-rc0402-51-rohs-l-6-r-12667930.pdf; ComponentLink8URL: https://datasheet.ciiva.com/11819/0900766b80c66297-11819452.pdf; ComponentLink8Description: https://datasheet.ciiva.com/11819/0900766b80c66297-11819452.pdf; Supplier 1: Digi-Key; Supplier Part Number 1: 311-1.00KLRCT-ND; Stock 1: 21888659; Pricing 1: 1=0.1, 10=0.014, 100=0.0056, 1000=0.0025, 2500=0.0022, 5000=0.0018 (USD); Case/Package: 0402; Number of Pins: 2; Case Code (Imperial): 0402; Case Code (Metric): 1005; Min Operating Temperature: -55°C; Max Operating Temperature: 155°C; Packaging: Tape and Reel; Composition: Thick Film; Voltage Rating (DC): 50V; Termination: SMD/SMT; Military Standard: Not; Length: 1mm; Height: 0.32mm; Width: 0.5mm; Depth: 0.5mm; REACH SVHC: Unknown; Lead Free: Lead Free; ComponentLink9URL: https://datasheet.ciiva.com/11819/0900766b80c66297-11819477.pdf; ComponentLink9Description: https://datasheet.ciiva.com/11819/0900766b80c66297-11819477.pdf; ComponentLink10URL: https://datasheet.ciiva.com/12666/pyu-rc0402-51-rohs-l-6-r-12666741.pdf; ComponentLink10Description: https://datasheet.ciiva.com/12666/pyu-rc0402-51-rohs-l-6-r-12666741.pdf; ComponentLink11URL: https://datasheet.ciiva.com/17063/pyu-rc0402-51-rohs-l-6-r-17063193.pdf; ComponentLink11Description: https://datasheet.ciiva.com/17063/pyu-rc0402-51-rohs-l-6-r-17063193.pdf; ComponentLink12URL: https://datasheet.ciiva.com/22747/1018594-22747513.pdf; ComponentLink12Description: https://datasheet.ciiva.com/22747/1018594-22747513.pdf; ComponentLink13URL: https://datasheet.ciiva.com/7849/1018594-7849869.pdf; ComponentLink13Description: https://datasheet.ciiva.com/7849/1018594-7849869.pdf; ComponentLink14URL: https://datasheet.ciiva.com/7983/1018594-7983502.pdf; ComponentLink14Description: https://datasheet.ciiva.com/7983/1018594-7983502.pdf; ComponentLink15URL: https://datasheet.ciiva.com/7849/1018594-7849871.pdf; ComponentLink15Description: https://datasheet.ciiva.com/7849/1018594-7849871.pdf; Category: Resistors; Resistance: 1K
footprint RESC0402(1005)_L (Chip Resistor, Body 1.0x0.5mm, IPC High Density)
footprint RESC0402(1005)_M (Chip Resistor, Body 1.0x0.5mm, IPC Low Density)
footprint RESC0402(1005)_N (Chip Resistor, Body 1.0x0.5mm, IPC Medium Density)
pins: 1, 2

## RES 4.7K OHM 1/10W 5% 0603 SMD
designator R?, comment Package / Case: 0603  (hidden comment: 4.7K)
4.7K 0603; Manufacturer: Panasonic Electronic Components; Manufacturer Part Number: ERJ-3GEYJ472V; Tolerance: ±5%; Power (Watts): 0.1W, 1/10W; Temperature Coefficient: ±200ppm/°C; Supplier 1: Digi-Key; RoHS: RoHS Compliant; Category: Resistors; Stock 1: 1261582; Pricing 1: 1=0.1, 50=0.0126, 100=0.0096, 250=0.00716, 500=0.00528, 1000=0.00352, 2500=0.00297 (USD); Packaging: Cut Tape (CT); Resistance (Ohms): 4.7k; Composition: Thick Film; Features: Automotive AEC-Q200 Qualified; Supplier Device Package: 0603; Size / Dimension: 0.063" L x 0.031" W (1.60mm x 0.80mm); Height: 0.022" (0.55mm); Number of Terminations: 2; ComponentLink1URL: http://industrial.panasonic.com/www-cgi/jvcr13pz.cgi?E+PZ+3+AOA0001+ERJ3GEYJ472V+7+WW; ComponentLink1Description: http://industrial.panasonic.com/www-cgi/jvcr13pz.cgi?E+PZ+3+AOA0001+ERJ3GEYJ472V+7+WW; Supplier Part Number 1: P4.7KGCT-ND
simulation model RESISTOR (Resistor)
signal-integrity model Res
footprint RESC0603(1608)_L (Chip Resistor, Body 1.6x0.8mm, IPC High Density)
footprint RESC0603(1608)_M (Chip Resistor, Body 1.6x0.8mm, IPC Low Density)
footprint RESC0603(1608)_N (Chip Resistor, Body 1.6x0.8mm, IPC Medium Density)
pins: 1, 2

## RES 33 OHM 1/10W 5% 0603 SMD
designator R?, comment Package / Case: 0603  (hidden comment: 33)
33 0603; Manufacturer: Panasonic Electronic Components; Manufacturer Part Number: ERJ-3GEYJ330V; Tolerance: ±5%; Power (Watts): 0.1W, 1/10W; Temperature Coefficient: ±200ppm/°C; Supplier 1: Digi-Key; RoHS: RoHS Compliant; Category: Resistors; Stock 1: 499360; Pricing 1: 1=0.1, 50=0.0126, 100=0.0096, 250=0.00716, 500=0.00528, 1000=0.00352, 2500=0.00297 (USD); Packaging: Cut Tape (CT); Resistance (Ohms): 33; Composition: Thick Film; Features: -; Supplier Device Package: 0603; Size / Dimension: 0.063" L x 0.031" W (1.60mm x 0.80mm); Height: 0.022" (0.55mm); Number of Terminations: 2; ComponentLink1URL: http://industrial.panasonic.com/www-cgi/jvcr13pz.cgi?E+PZ+3+AOA0001+ERJ3GEYJ330V+7+WW; ComponentLink1Description: http://industrial.panasonic.com/www-cgi/jvcr13pz.cgi?E+PZ+3+AOA0001+ERJ3GEYJ330V+7+WW; Supplier Part Number 1: P33GCT-ND
simulation model RESISTOR (Resistor)
footprint RESC0603(1608)_L (Chip Resistor, Body 1.6x0.8mm, IPC High Density)
footprint RESC0603(1608)_M (Chip Resistor, Body 1.6x0.8mm, IPC Low Density)
footprint RESC0603(1608)_N (Chip Resistor, Body 1.6x0.8mm, IPC Medium Density)
pins: 1, 2

## RES 56.2K OHM 1% 1/10W 0402
designator R?, comment Resistance (Ohms): 56.2k  Package / Case: 0402  (hidden comment: 56.2K 1%)
56.2K 1% 0402; Manufacturer: Panasonic Electronic Components; Manufacturer Part Number: ERJ-2RKF5622X; Power (Watts): 0.1W, 1/10W; Temperature Coefficient: ±100ppm/°C; Supplier 1: Digi-Key; RoHS: RoHS Compliant; Category: Resistors; Stock 1: 222789; Pricing 1: 1=0.1, 50=0.0124, 100=0.0091, 250=0.00692, 500=0.00554, 1000=0.00408, 5000=0.00293 (USD); Packaging: Cut Tape (CT); Part Status: Active; Tolerance: ±1%; Composition: Thick Film; Features: Automotive AEC-Q200; Operating Temperature: -55°C ~ 155°C; Supplier Device Package: 0402; Size / Dimension: 0.039" L x 0.020" W (1.00mm x 0.50mm); Height: 0.016" (0.40mm); Number of Terminations: 2; Failure Rate: -; ComponentLink1URL: http://industrial.panasonic.com/www-cgi/jvcr13pz.cgi?E+PZ+3+AOA0002+ERJ2RKF5622X+7+WW; ComponentLink1Description: http://industrial.panasonic.com/www-cgi/jvcr13pz.cgi?E+PZ+3+AOA0002+ERJ2RKF5622X+7+WW; Supplier Part Number 1: P56.2KLCT-ND
footprint RESC0402(1005)_L (Chip Resistor, Body 1.0x0.5mm, IPC High Density)
footprint RESC0402(1005)_M (Chip Resistor, Body 1.0x0.5mm, IPC Low Density)
footprint RESC0402(1005)_N (Chip Resistor, Body 1.0x0.5mm, IPC Medium Density)
pins: 1, 2

## U/ESP32-WROOM-32D
designator U?, comment ESP32
ESP32 module
footprint ESP32 (ESP32 WROOM 32D)
pins: 1 GND (power), 2 3V3 (power), 3 EN, 4 SENSOR_VP, 5 SENSOR_VN, 6 IO34, 7 IO35, 8 IO32, 9 IO33, 10 IO25, 11 IO26, 12 IO27, 13 IO14, 14 IO12, 15 GND, 16 IO13, 17 SD2, 18 SD3, 19 CMD, 20 CLK, 21 SD0, 22 SD1, 23 IO15, 24 IO2, 25 IO0, 26 IO4, 27 IO16, 28 IO17, 29 IO5, 30 IO18, 31 IO19, 32 NC, 33 IO21, 34 RXDO, 35 TXDO, 36 IO22, 37 IO23, 38 GND (power), 39 PGND (power)

## U/TPS562209DDCR
designator U?
IC REG BUCK ADJ 2A TSOT23-6; Voltage - Input (Min): 4.5V; Voltage - Input (Max): 17V; Voltage - Output (Min/Fixed): 0.765V; Voltage - Output (Max): 7V; Frequency - Switching: 650KHZ; Manufacturer Part Number: TPS562209DDCR; Topology: Buck; Current - Output: 2A; Supplier Device Package: TSOT-23-6
footprint SOT-23 (SOT23, 6-Leads, Body 2.90x2.80mm, Pitch 0.95mm, IPC Medium Density)
pins: 1 GND (power), 2 SW (power), 3 VIN (power), 4 VFB (power), 5 EN (power), 6 VBST (power)

## WS2812C
designator U?
Serial RGB LED; RGB Current: 5mA; Voltage: 3.5V ~ 5.3V; RED Brightness: 60mcd; GREEN Brightness: 245mcd; BLUE Brightness: 65 mcd; White Brightness: 365 mcd; LCSC: C114587; Datasheet: https://datasheet.lcsc.com/szlcsc/Worldsemi-WS2812C_C114587.pdfhttps://datasheet.lcsc.com/szlcsc/Worldsemi-WS2812C_C114587.pdf
footprint WS2812C (RGB LED)
pins: 1 VDD (power), 2 DOUT (power), 3 GND (power), 4 DIN (power)